# Altium footprint library LC Circuit.PcbLib: 18 footprints (part 1 of 2)
Each footprint in its own frame and in the unit in brackets; x right, y up, seen from the top. Pads: shape width x height; smd on the part's side, far side on the other; paste and mask are expansions set on the pad; w line width, h text height; cw(c..) or ccw(c..) is an arc to the next point about the centre after c.
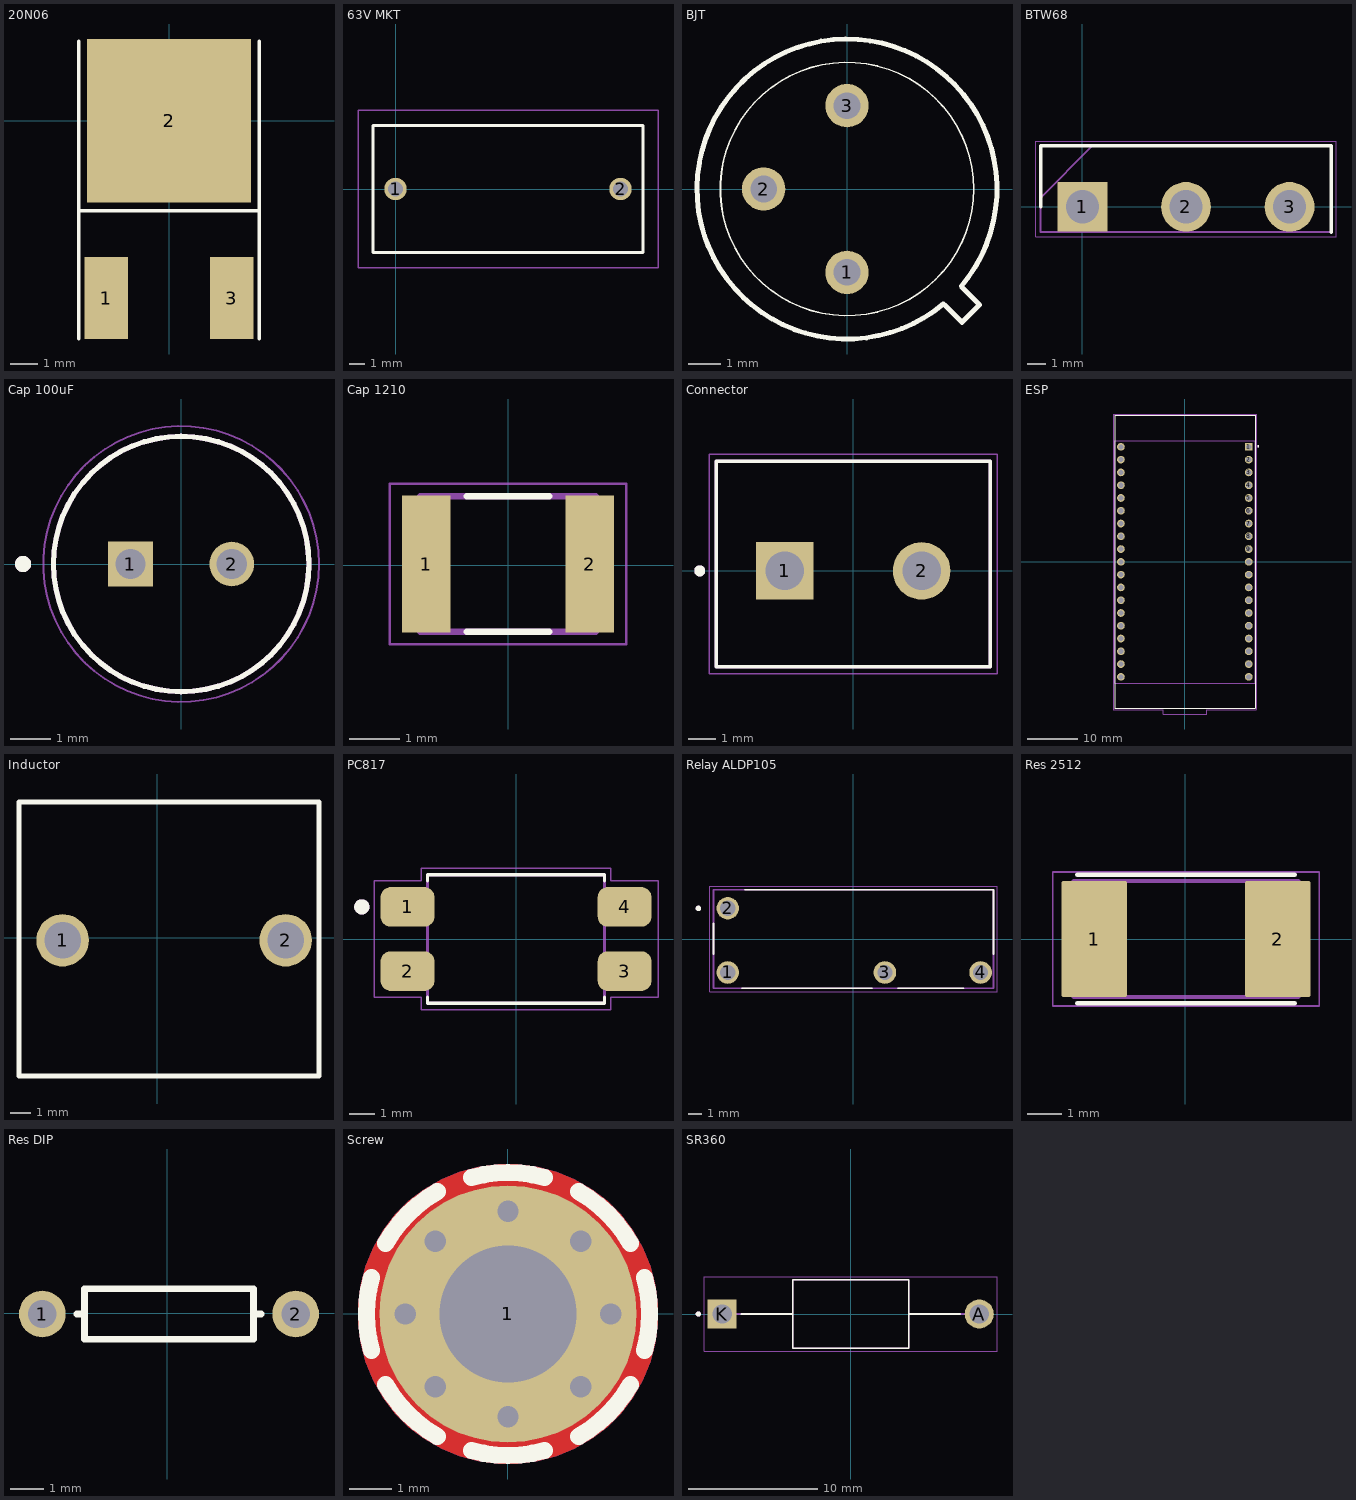
[diagram p0: the footprints below, top view; thin cyan lines are the x and y axes]

## 20N06 [mm]
pads (3):
  rect 1.6x3 smd: 1(-2.3,-6.5) 3(2.3,-6.5)
  rect 6x6 smd: 2(0,0)
Top Overlay:
  lines w0.127: -3.302,-8.001 -3.302,-3.302 ; -3.302,2.921 -3.302,-3.302 ; 3.302,-8.001 3.302,-3.302 ; 3.302,2.921 3.302,-3.302 ; -3.302,-3.302 3.302,-3.302
3D body "IRLR8726TRPBF.STEP": height 2.39, standoff -0.13, extent -3.27,-7.238 3.27,2.666

## 63V MKT [mm]
pads (2):
  round 1.5 hole 1: 1(0,0) 2(15,0)
Top Overlay:
  lines w0.2: -1.5,-4.25 -1.5,4.25 16.5,4.25 16.5,-4.25 -1.5,-4.25
Mechanical 13:
  lines w0.1: -1.5,-4.25 -1.5,4.25 16.5,4.25 16.5,-4.25 -1.5,-4.25
Mechanical 15:
  lines w0.1: -2.5,-5.25 -2.5,5.25 17.5,5.25 17.5,-5.25 -2.5,-5.25
3D body "B32522C0685K000.stp": height 14.6, standoff -5, extent -1.5,-4.25 16.5,4.25

## BJT [mil]
pads (3):
  round 52 hole 32: 1(0,-100) 2(-100,0) 3(0,100)
Top Overlay:
  circle w2: c0,0 r152
  lines w6: 115.91,-137.71 cw(c0,0) 137.41,-116.27 ; 117,-139 138,-160 159,-139 138,-118
3D body "2N3501.STEP": height 260, standoff -500, extent -180,-179.99 180,180

## BTW68 [mm]
pads (3):
  rect 2.655x2.655 hole 1.77: 1(0,0)
  round 2.655 hole 1.77: 2(5.525,0) 3(11.05,0)
Top Overlay:
  lines w0.2: -2.225,0 -2.225,3.25 13.275,3.25 13.275,-1.35
Mechanical 13:
  lines w0.1: -2.225,0.488 0.537,3.25 ; -2.225,-1.35 -2.225,3.25 13.275,3.25 13.275,-1.35 -2.225,-1.35
Mechanical 15:
  lines w0.05: -2.475,-1.6 -2.475,3.5 13.525,3.5 13.525,-1.6 -2.475,-1.6
3D body "BTW68-800RG.stp": height 21.54, standoff -14.52, extent -2.12,-1.301 13.18,3.2

## Cap [mil]

## Cap 100uF [mm]
pads (2):
  rect 1.1x1.1 hole 0.75: 1(-1.25,0)
  round 1.1 hole 0.75: 2(1.25,0)
Top Overlay:
  circle w0.2: c-3.9,0 r0.1
  circle w0.127: c0,0 r3.15
Mechanical 13:
  circle w0.2: c-3.9,0 r0.1
  circle w0.127: c0,0 r3.15
Mechanical 15:
  circle w0.05: c0,0 r3.4
3D body "step_temp.STEP": height 11.2, standoff -17, extent -3.15,-3.149 3.15,3.149

## Cap 1210 [mm] "SMD Ceramic 1210"
pads (2):
  rect 0.96x2.72 smd: 1(-1.625,0.025) 2(1.625,0.025)
Top Overlay:
  lines w0.127: -0.82,-1.325 0.82,-1.325 ; -0.82,1.375 0.82,1.375
Mechanical 13:
  lines w0.127: -1.75,-1.325 -1.75,1.375 1.75,1.375 1.75,-1.325 -1.75,-1.325
Mechanical 15:
  lines w0.05: -2.355,-1.575 -2.355,1.625 2.355,1.625 2.355,-1.575 -2.355,-1.575
3D body "GRM32ER61E226KE15L.STEP": height 2.2, standoff 0, extent -1.6,-1.25 1.6,1.25

## Connector [mm]
pads (2):
  rect 2.1x2.1 hole 1.4: 1(-2.5,0)
  round 2.1 hole 1.4: 2(2.5,0)
Top Overlay:
  circle w0.2: c-5.6,0 r0.1
  lines w0.127: -5,-3.5 -5,4 5,4 5,-3.5 -5,-3.5
Mechanical 13:
  circle w0.2: c-5.6,0 r0.1
  lines w0.127: -5,-3.5 5,-3.5 5,4 -5,4 -5,-3.5
Mechanical 15:
  lines w0.05: -5.25,-3.75 5.25,-3.75 5.25,4.25 -5.25,4.25 -5.25,-3.75
3D body "KF301-2P--3DModel-STEP-510211.STEP": height 10, standoff -4.5, extent -5.554,-3.309 5.046,4.191

## ESP [mm]
pads (38):
  rect 1.53x1.53 / inner round 1.53 / far side rect 1.53x1.53 hole 1.02: 1(12.7,22.86)
  round 1.53 hole 1.02: 2(12.7,20.32) 3(12.7,17.78) 4(12.7,15.24) 5(12.7,12.7) 6(12.7,10.16) 7(12.7,7.62) 8(12.7,5.08) 9(12.7,2.54) 10(12.7,0) 11(12.7,-2.54) 12(12.7,-5.08) 13(12.7,-7.62) 14(12.7,-10.16) 15(12.7,-12.7) 16(12.7,-15.24) 17(12.7,-17.78) 18(12.7,-20.32) 19(12.7,-22.86) 20(-12.7,-22.86) 21(-12.7,-20.32) 22(-12.7,-17.78) 23(-12.7,-15.24) 24(-12.7,-12.7) 25(-12.7,-10.16) 26(-12.7,-7.62) 27(-12.7,-5.08) 28(-12.7,-2.54) 29(-12.7,0) 30(-12.7,2.54) 31(-12.7,5.08) 32(-12.7,7.62) 33(-12.7,10.16) 34(-12.7,12.7) 35(-12.7,15.24) 36(-12.7,17.78) 37(-12.7,20.32) 38(-12.7,22.86)
Top Overlay:
  circle w0.2: c14.57,22.98 r0.1
  lines w0.127: -13.95,-29.09 -13.95,29.11 13.95,29.11 13.95,-29.09 4.07,-29.09 -4.06,-29.09 -13.95,-29.09
Mechanical 13:
  circle w0.2: c14.57,22.98 r0.1
  lines w0.127: -13.95,-24.09 -13.95,24.11 13.95,24.11 13.95,-24.09 4.07,-24.09 -4.06,-24.09 -13.95,-24.09
Mechanical 15:
  lines w0.05: -14.2,29.385 -14.2,-29.37 -4.31,-29.37 -4.31,-30.24 4.32,-30.24 4.32,-29.37 14.2,-29.37 ; -14.2,29.39 14.2,29.39 14.2,-29.327
3D body "step_temp.STEP": height 7.85, standoff -5.5, extent -14.057,-24.628 13.843,24.122

## Inductor [mm]
pads (2):
  round 2.6 hole 1.8: 1(-4.699,-0.127) 2(6.35,-0.127)
Top Overlay:
  lines w0.254: -6.858,-6.858 8.001,-6.858 8.001,6.731 -6.858,6.731 -6.858,-6.858
Mechanical 15:
  lines w0.2: -6.858,-6.858 8.001,-6.858 8.001,6.731 -6.858,6.731 -6.858,-6.858
3D body "Pioneer Coil 11turns.STEP": height 15.09, standoff -1.2, extent -7.167,-7.294 7.2,7.04

## PC817 [mm]
pads (4):
  rrect50% 2.13x1.57 smd: 1(-4.29,1.27) 2(-4.29,-1.27) 3(4.29,-1.27) 4(4.29,1.27)
Top Overlay:
  circle w0.3: c-6.1,1.27 r0.15
  lines w0.127: -3.5,-2.304 -3.5,-2.54 3.5,-2.54 3.5,-2.304 ; -3.5,2.304 -3.5,2.54 3.5,2.54 3.5,2.304
Mechanical 13:
  circle w0.3: c-6.1,1.27 r0.15
  lines w0.127: -3.5,-2.54 3.5,-2.54 3.5,2.54 -3.5,2.54 -3.5,-2.54
Mechanical 15:
  lines w0.05: -5.61,-2.31 -3.75,-2.31 -3.75,-2.79 3.75,-2.79 3.75,-2.31 5.61,-2.31 5.61,2.31 3.75,2.31 3.75,2.79 -3.75,2.79 -3.75,2.31 -5.61,2.31 -5.61,-2.31
3D body "step_temp.STEP": height 4, standoff 0, extent -4.875,-2.29 4.875,2.29

## Relay ALDP105 [mm]
pads (4):
  round 1.65 hole 1.1: 1(-9.2,-2.45) 2(-9.2,2.25) 3(2.3,-2.45) 4(9.3,-2.45)
Top Overlay:
  circle w0.2: c-11.35,2.24 r0.1
  lines w0.127: -10.25,-1.1 -10.25,1.15 ; -8.15,-3.6 1.35,-3.6 ; -7.95,3.6 10.25,3.6 10.25,-1.1 ; 3.25,-3.6 8.05,-3.6
Mechanical 13:
  circle w0.2: c-11.35,2.24 r0.1
  lines w0.127: -10.25,-3.6 10.25,-3.6 10.25,3.6 -10.25,3.6 -10.25,-3.6
Mechanical 15:
  lines w0.05: -10.5,-3.85 -10.5,3.85 10.5,3.85 10.5,-3.85 -10.5,-3.85
3D body "RC-105DM1 v2.step": height 14.7, standoff -3.7, extent -10.023,-3.627 10.277,3.373

## Res 2512 [mm]
pads (2):
  rrect7% 1.9x3.37 smd: 1(-2.635,0) 2(2.685,0)
Top Overlay:
  lines w0.127: -3.125,-1.865 3.175,-1.865 ; -3.125,1.865 3.175,1.865
Mechanical 13:
  lines w0.127: -3.225,-1.68 3.275,-1.68 3.275,1.68 -3.225,1.68 -3.225,-1.68
Mechanical 15:
  lines w0.05: -3.835,-1.94 3.885,-1.94 3.885,1.94 -3.835,1.94 -3.835,-1.94
3D body "CSNL2512FT2L00.STEP": height 0.7, standoff 0, extent -3.15,-1.575 3.2,1.575

## Res DIP [mm]
pads (2):
  round 1.4 hole 0.85: 1(-3.76,-0.026) 2(3.86,-0.026)
Top Overlay:
  lines w0.2: -2.718,-0.026 -2.49,-0.026 ; 2.819,-0.026 2.59,-0.026 ; 2.59,-0.026 2.59,0.736 -2.49,0.736 -2.49,-0.788 2.59,-0.788 2.59,-0.026
3D body "User Library-Resis P_7_62_D_3.STEP": height 2.74, standoff -1.4, extent -4.125,-1.187 4.195,1.099

## Screw [mm]
pads (1):
  round 6 / inner round 3.5 / far side round 6 hole 3.2 mask+0.1: 1(0,0)
via 0,2.4 diameter 0.8 hole 0.5
via 0,-2.4 diameter 0.8 hole 0.5
via 1.697,-1.697 diameter 0.8 hole 0.5
via -1.697,1.697 diameter 0.8 hole 0.5
via 2.4,0 diameter 0.8 hole 0.5
via -2.4,0 diameter 0.8 hole 0.5
via 1.697,1.697 diameter 0.8 hole 0.5
via -1.697,-1.697 diameter 0.8 hole 0.5
Top Layer:
  pour cut-out: 0,3.5 -0.229,3.5 -0.684,3.44 -1.127,3.321 -1.551,3.146 -1.949,2.916 -2.313,2.637 -2.637,2.313 -2.916,1.949 -3.146,1.551 -3.321,1.127 -3.44,0.684 -3.5,0.229 -3.5,0 -3.5,-0.229 -3.44,-0.684 -3.321,-1.127 -3.146,-1.551 -2.916,-1.949 -2.637,-2.313 -2.313,-2.637 -1.949,-2.916 -1.551,-3.146 -1.127,-3.321 -0.684,-3.44 -0.229,-3.5 0,-3.5 0.229,-3.5 0.684,-3.44 1.127,-3.321 1.551,-3.146 1.949,-2.916 2.313,-2.637 2.637,-2.313 2.916,-1.949 3.146,-1.551 3.321,-1.127 3.44,-0.684 3.5,-0.229 3.5,0 3.5,0.229 3.44,0.684 3.321,1.127 3.146,1.551 2.916,1.949 2.637,2.313 2.313,2.637 1.949,2.916 1.551,3.146 1.127,3.321 0.684,3.44 0.229,3.5
Bottom Layer:
  pour cut-out: 0,3.5 -0.229,3.5 -0.684,3.44 -1.127,3.321 -1.551,3.146 -1.949,2.916 -2.313,2.637 -2.637,2.313 -2.916,1.949 -3.146,1.551 -3.321,1.127 -3.44,0.684 -3.5,0.229 -3.5,0 -3.5,-0.229 -3.44,-0.684 -3.321,-1.127 -3.146,-1.551 -2.916,-1.949 -2.637,-2.313 -2.313,-2.637 -1.949,-2.916 -1.551,-3.146 -1.127,-3.321 -0.684,-3.44 -0.229,-3.5 0,-3.5 0.229,-3.5 0.684,-3.44 1.127,-3.321 1.551,-3.146 1.949,-2.916 2.313,-2.637 2.637,-2.313 2.916,-1.949 3.146,-1.551 3.321,-1.127 3.44,-0.684 3.5,-0.229 3.5,0 3.5,0.229 3.44,0.684 3.321,1.127 3.146,1.551 2.916,1.949 2.637,2.313 2.313,2.637 1.949,2.916 1.551,3.146 1.127,3.321 0.684,3.44 0.229,3.5
Top Overlay:
  lines w0.4: -3.188,-0.854 cw(c0,0) -3.188,0.854 ; -2.858,-1.65 ccw(c0,0) -1.65,-2.858 ; -2.858,1.65 cw(c0,0) -1.65,2.858 ; -0.854,-3.188 ccw(c0,0) 0.854,-3.188 ; -0.854,3.188 cw(c0,0) 0.854,3.188 ; 1.65,-2.858 ccw(c0,0) 2.858,-1.65 ; 1.65,2.858 cw(c0,0) 2.858,1.65 ; 3.188,-0.854 ccw(c0,0) 3.188,0.854

## SR360 [mm] "Schottkey Diode"
pads (2):
  round 2.25 hole 1.5: A(9.95,0)
  rect 2.25x2.25 / inner round 2.25 / far side rect 2.25x2.25 hole 1.5: K(-9.95,0)
Top Overlay:
  circle w0.2: c-11.8,0 r0.1
  lines w0.127: -8.47,0 -4.5,0 ; 8.47,0 4.5,0 ; -4.5,0 -4.5,-2.65 4.5,-2.65 4.5,0 ; -4.5,0 -4.5,2.65 4.5,2.65 4.5,0
Mechanical 13:
  circle w0.2: c-11.8,0 r0.1
  lines w0.127: -9.95,0 -4.5,0 ; 9.95,0 4.5,0 ; -4.5,0 -4.5,-2.65 4.5,-2.65 4.5,0 ; -4.5,0 -4.5,2.65 4.5,2.65 4.5,0
Mechanical 15:
  lines w0.05: -11.325,-2.9 11.325,-2.9 11.325,2.9 -11.325,2.9 -11.325,-2.9
3D body "DO-201AD.stp": height 5.65, standoff -3.66, extent -7.727,-2.642 7.727,2.642